# EAGLE library part 1365-98 (library EW_Connectors)
DUAL ROW STRAIGHT HEADER 1364 SERIES. 1.27mm x 1.27mm. Without Fixing Post. SMT Source: http://www.leotronics.co.uk/Conexcon/Data%20Sheets/sec.%20A/1364ing.pdf
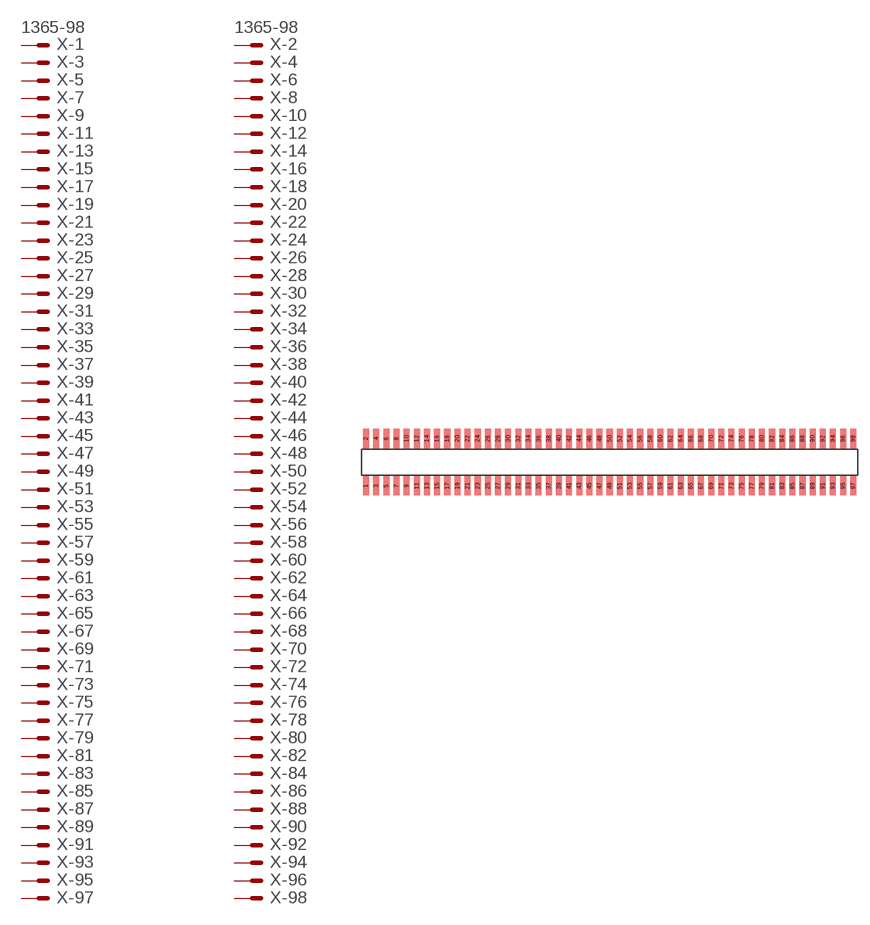
[diagram p127: symbol with the pads of 1365-98; footprint 1365-98]

Designator prefix X; gates -1=MVAL-23 -2=MVAL-23 -3=M-34 -4=M-34 -5=M-34 -6=M-34 -7=M-34 -8=M-34 -9=M-34 -10=M-34 -11=M-34 -12=M-34 -13=M-34 -14=M-34 -15=M-34 -16=M-34 -17=M-34 -18=M-34 -19=M-34 -20=M-34 -21=M-34 -22=M-34 -23=M-34 -24=M-34 -25=M-34 -26=M-34 -27=M-34 -28=M-34 -29=M-34 -30=M-34 -31=M-34 -32=M-34 -33=M-34 -34=M-34 -35=M-34 -36=M-34 -37=M-34 -38=M-34 -39=M-34 -40=M-34 -41=M-34 -42=M-34 -43=M-34 -44=M-34 -45=M-34 -46=M-34 -47=M-34 -48=M-34 -49=M-34 -50=M-34 -51=M-34 -52=M-34 -53=M-34 -54=M-34 -55=M-34 -56=M-34 -57=M-34 -58=M-34 -59=M-34 -60=M-34 -61=M-34 -62=M-34 -63=M-34 -64=M-34 -65=M-34 -66=M-34 -67=M-34 -68=M-34 -69=M-34 -70=M-34 -71=M-34 -72=M-34 -73=M-34 -74=M-34 -75=M-34 -76=M-34 -77=M-34 -78=M-34 -79=M-34 -80=M-34 -81=M-34 -82=M-34 -83=M-34 -84=M-34 -85=M-34 -86=M-34 -87=M-34 -88=M-34 -89=M-34 -90=M-34 -91=M-34 -92=M-34 -93=M-34 -94=M-34 -95=M-34 -96=M-34 -97=M-34 -98=M-34

## 1365-98 (OC_FARNELL: unknown; OC_NEWARK: unknown)  [1365-98]
1  -1:S  pas
2  -2:S  pas
3  -3:S  pas
4  -4:S  pas
5  -5:S  pas
6  -6:S  pas
7  -7:S  pas
8  -8:S  pas
9  -9:S  pas
10  -10:S  pas
11  -11:S  pas
12  -12:S  pas
13  -13:S  pas
14  -14:S  pas
15  -15:S  pas
16  -16:S  pas
17  -17:S  pas
18  -18:S  pas
19  -19:S  pas
20  -20:S  pas
21  -21:S  pas
22  -22:S  pas
23  -23:S  pas
24  -24:S  pas
25  -25:S  pas
26  -26:S  pas
27  -27:S  pas
28  -28:S  pas
29  -29:S  pas
30  -30:S  pas
31  -31:S  pas
32  -32:S  pas
33  -33:S  pas
34  -34:S  pas
35  -35:S  pas
36  -36:S  pas
37  -37:S  pas
38  -38:S  pas
39  -39:S  pas
40  -40:S  pas
41  -41:S  pas
42  -42:S  pas
43  -43:S  pas
44  -44:S  pas
45  -45:S  pas
46  -46:S  pas
47  -47:S  pas
48  -48:S  pas
49  -49:S  pas
50  -50:S  pas
51  -51:S  pas
52  -52:S  pas
53  -53:S  pas
54  -54:S  pas
55  -55:S  pas
56  -56:S  pas
57  -57:S  pas
58  -58:S  pas
59  -59:S  pas
60  -60:S  pas
61  -61:S  pas
62  -62:S  pas
63  -63:S  pas
64  -64:S  pas
65  -65:S  pas
66  -66:S  pas
67  -67:S  pas
68  -68:S  pas
69  -69:S  pas
70  -70:S  pas
71  -71:S  pas
72  -72:S  pas
73  -73:S  pas
74  -74:S  pas
75  -75:S  pas
76  -76:S  pas
77  -77:S  pas
78  -78:S  pas
79  -79:S  pas
80  -80:S  pas
81  -81:S  pas
82  -82:S  pas
83  -83:S  pas
84  -84:S  pas
85  -85:S  pas
86  -86:S  pas
87  -87:S  pas
88  -88:S  pas
89  -89:S  pas
90  -90:S  pas
91  -91:S  pas
92  -92:S  pas
93  -93:S  pas
94  -94:S  pas
95  -95:S  pas
96  -96:S  pas
97  -97:S  pas
98  -98:S  pas

## Footprint 1365-98 (pad centres in mm)
DUAL ROW STRAIGHT HEADER 1364 SERIES. 1.27mm x 1.27mm. Without Fixing Post. SMT Source: http://www.leotronics.co.uk/Conexcon/Data%20Sheets/sec.%20A/1364ing.pdf
smd 0.76 x 2.4: 1 -30.48,-2.95; 2 -30.48,2.95; 3 -29.21,-2.95; 4 -29.21,2.95; 5 -27.94,-2.95; 6 -27.94,2.95; 7 -26.67,-2.95; 8 -26.67,2.95; 9 -25.4,-2.95; 10 -25.4,2.95; 11 -24.13,-2.95; 12 -24.13,2.95; 13 -22.86,-2.95; 14 -22.86,2.95; 15 -21.59,-2.95; 16 -21.59,2.95; 17 -20.32,-2.95; 18 -20.32,2.95; 19 -19.05,-2.95; 20 -19.05,2.95; 21 -17.78,-2.95; 22 -17.78,2.95; 23 -16.51,-2.95; 24 -16.51,2.95; 25 -15.24,-2.95; 26 -15.24,2.95; 27 -13.97,-2.95; 28 -13.97,2.95; 29 -12.7,-2.95; 30 -12.7,2.95; 31 -11.43,-2.95; 32 -11.43,2.95; 33 -10.16,-2.95; 34 -10.16,2.95; 35 -8.89,-2.95; 36 -8.89,2.95; 37 -7.62,-2.95; 38 -7.62,2.95; 39 -6.35,-2.95; 40 -6.35,2.95; 41 -5.08,-2.95; 42 -5.08,2.95; 43 -3.81,-2.95; 44 -3.81,2.95; 45 -2.54,-2.95; 46 -2.54,2.95; 47 -1.27,-2.95; 48 -1.27,2.95; 49 0,-2.95; 50 0,2.95; 51 1.27,-2.95; 52 1.27,2.95; 53 2.54,-2.95; 54 2.54,2.95; 55 3.81,-2.95; 56 3.81,2.95; 57 5.08,-2.95; 58 5.08,2.95; 59 6.35,-2.95; 60 6.35,2.95; 61 7.62,-2.95; 62 7.62,2.95; 63 8.89,-2.95; 64 8.89,2.95; 65 10.16,-2.95; 66 10.16,2.95; 67 11.43,-2.95; 68 11.43,2.95; 69 12.7,-2.95; 70 12.7,2.95; 71 13.97,-2.95; 72 13.97,2.95; 73 15.24,-2.95; 74 15.24,2.95; 75 16.51,-2.95; 76 16.51,2.95; 77 17.78,-2.95; 78 17.78,2.95; 79 19.05,-2.95; 80 19.05,2.95; 81 20.32,-2.95; 82 20.32,2.95; 83 21.59,-2.95; 84 21.59,2.95; 85 22.86,-2.95; 86 22.86,2.95; 87 24.13,-2.95; 88 24.13,2.95; 89 25.4,-2.95; 90 25.4,2.95; 91 26.67,-2.95; 92 26.67,2.95; 93 27.94,-2.95; 94 27.94,2.95; 95 29.21,-2.95; 96 29.21,2.95; 97 30.48,-2.95; 98 30.48,2.95